# Altium schematic symbol library Schlib_Kremniy_EL.SchLib: 5 symbols
Pins are listed as number, name and electrical type; pins without a type are passive.

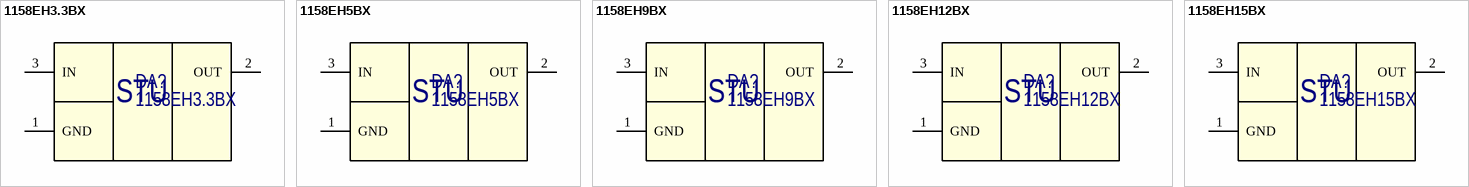
[diagram p0: symbols 1158ЕН3.3ВХ to 1158ЕН15ВХ]

## 1158ЕН3.3ВХ
designator DA?
Непрерывный стабилизатор с фиксированным выходным напряжением положительной полярности; Manufacturer: АО "Группа Кремний ЭЛ"; ТУ: АЕЯР.431420.773 ТУ; Part Number: 1158ЕН3.3ВХ
footprint KT93-1
pins: 1 GND (power), 2 OUT (power), 3 IN (power)
text: STU

## 1158ЕН5ВХ
designator DA?
Непрерывный стабилизатор с фиксированным выходным напряжением положительной полярности; Manufacturer: АО "Группа Кремний ЭЛ"; ТУ: АЕЯР.431420.773 ТУ; Part Number: 1158ЕН5ВХ
footprint KT93-1
pins: 1 GND (power), 2 OUT (power), 3 IN (power)
text: STU

## 1158ЕН9ВХ
designator DA?
Непрерывный стабилизатор с фиксированным выходным напряжением положительной полярности; Manufacturer: АО "Группа Кремний ЭЛ"; ТУ: АЕЯР.431420.773 ТУ; Part Number: 1158ЕН9ВХ
footprint KT93-1
pins: 1 GND (power), 2 OUT (power), 3 IN (power)
text: STU

## 1158ЕН12ВХ
designator DA?
Непрерывный стабилизатор с фиксированным выходным напряжением положительной полярности; Manufacturer: АО "Группа Кремний ЭЛ"; ТУ: АЕЯР.431420.773 ТУ; Part Number: 1158ЕН12ВХ
footprint KT93-1
pins: 1 GND (power), 2 OUT (power), 3 IN (power)
text: STU

## 1158ЕН15ВХ
designator DA?
Непрерывный стабилизатор с фиксированным выходным напряжением положительной полярности; Manufacturer: АО "Группа Кремний ЭЛ"; ТУ: АЕЯР.431420.773 ТУ; Part Number: 1158ЕН15ВХ
footprint KT93-1
pins: 1 GND (power), 2 OUT (power), 3 IN (power)
text: STU